# Altium schematic symbol library RES.SchLib: 320 symbols (part 2 of 2)
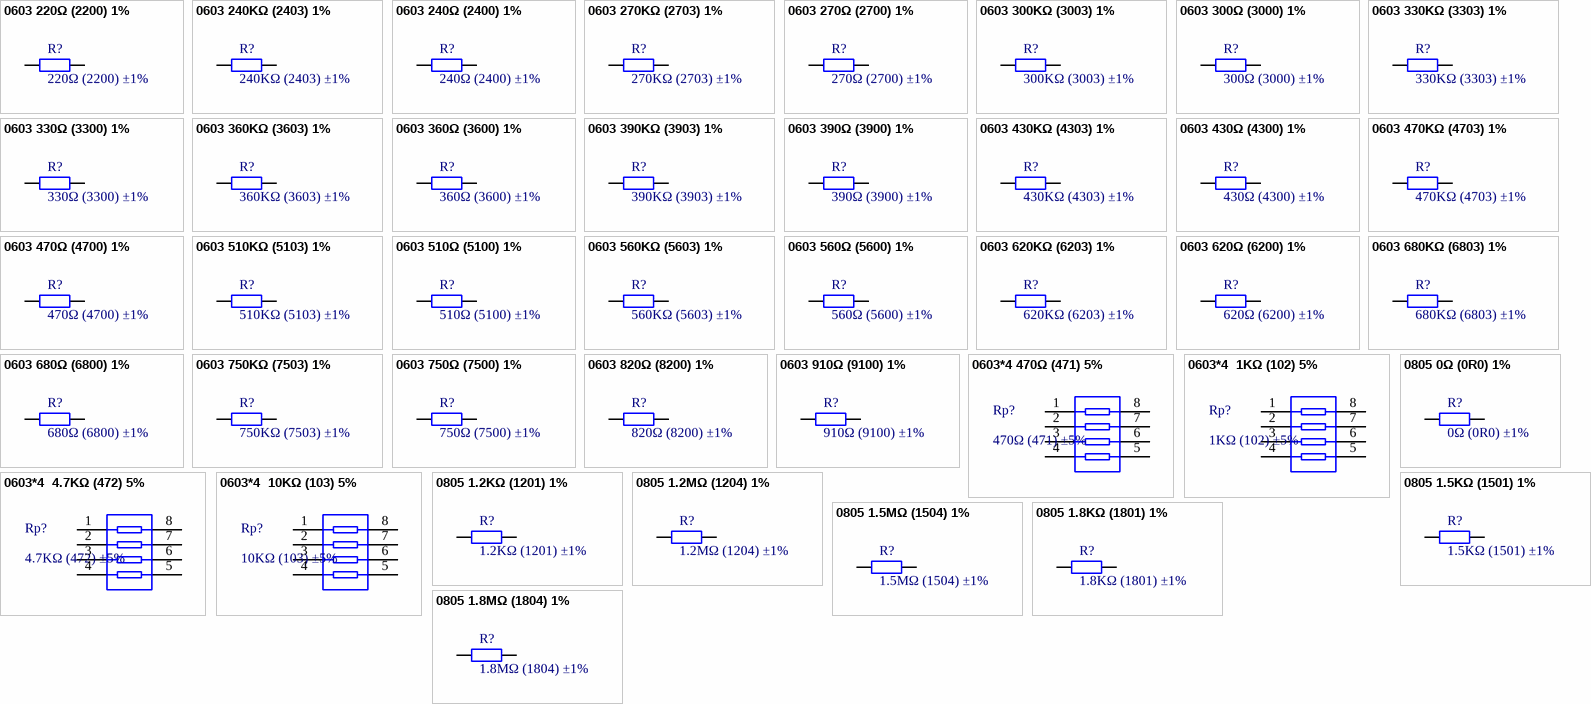
[diagram p8: symbols 0603 220Ω (2200) 1% to 0805 1.8MΩ (1804) 1%]

## 0603*4  10KΩ (103) 5%
designator Rp?, comment 10KΩ (103) ±5%
贴片排阻; ComponentLink1Description: 供应商链接; ComponentLink1URL: http://www.szlcsc.com/product/details_30472.html; Package: 0603*4; Supplier: LC; SuppliersPartNumber: C29718
footprint 0603_Rx4
pins: 1, 2, 3, 4, 5, 6, 7, 8

## 0805 0Ω (0R0) 1%
designator R?, comment 0Ω (0R0) ±1%
贴片电阻; ComponentLink1Description: 供应商链接; ComponentLink1URL: http://www.szlcsc.com/product/details_18165.html; Package: 0805; Supplier: LC; SuppliersPartNumber: C17477
footprint 0805_R
pins: 1, 2

## 0805 1.2KΩ (1201) 1%
designator R?, comment 1.2KΩ (1201) ±1%
贴片电阻; ComponentLink1Description: 供应商链接; ComponentLink1URL: http://www.szlcsc.com/product/details_18067.html; Package: 0805; Supplier: LC; SuppliersPartNumber: C17379
footprint 0805_R
pins: 1, 2

## 0805 1.2MΩ (1204) 1%
designator R?, comment 1.2MΩ (1204) ±1%
贴片电阻; ComponentLink1Description: 供应商链接; ComponentLink1URL: http://www.szlcsc.com/product/details_18068.html; Package: 0805; Supplier: LC; SuppliersPartNumber: C17380
footprint 0805_R
pins: 1, 2

## 0805 1.5KΩ (1501) 1%
designator R?, comment 1.5KΩ (1501) ±1%
贴片电阻; ComponentLink1Description: 供应商链接; ComponentLink1URL: http://www.szlcsc.com/product/details_4717.html; Package: 0805; Supplier: LC; SuppliersPartNumber: C4310
footprint 0805_R
pins: 1, 2

## 0805 1.5MΩ (1504) 1%
designator R?, comment 1.5MΩ (1504) ±1%
贴片电阻; ComponentLink1Description: 供应商链接; ComponentLink1URL: http://www.szlcsc.com/product/details_26853.html; Package: 0805; Supplier: LC; SuppliersPartNumber: C26110
footprint 0805_R
pins: 1, 2

## 0805 1.8KΩ (1801) 1%
designator R?, comment 1.8KΩ (1801) ±1%
贴片电阻; ComponentLink1Description: 供应商链接; ComponentLink1URL: http://www.szlcsc.com/product/details_18086.html; Package: 0805; Supplier: LC; SuppliersPartNumber: C17398
footprint 0805_R
pins: 1, 2

## 0805 1.8MΩ (1804) 1%
designator R?, comment 1.8MΩ (1804) ±1%
贴片电阻; ComponentLink1Description: 供应商链接; ComponentLink1URL: http://www.szlcsc.com/product/details_18087.html; Package: 0805; Supplier: LC; SuppliersPartNumber: C17399
footprint 0805_R
pins: 1, 2

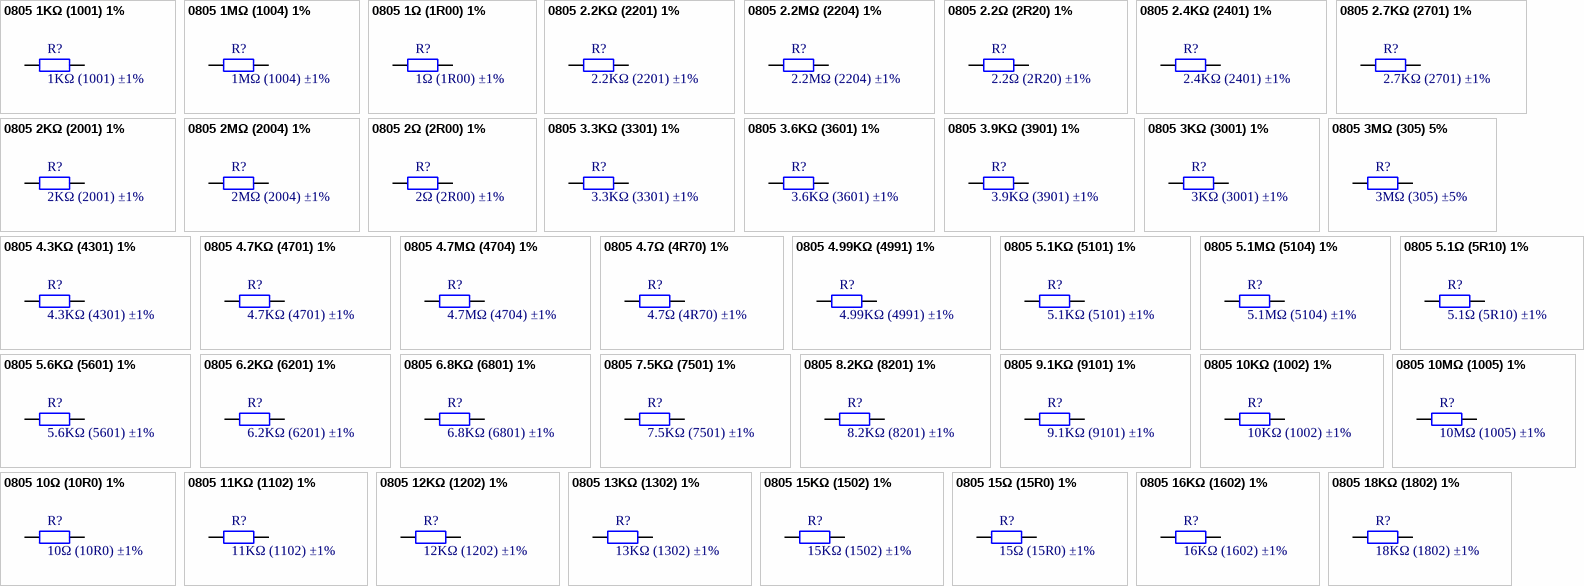
[diagram p5: symbols 0805 1KΩ (1001) 1% to 0805 18KΩ (1802) 1%]

## 0805 1KΩ (1001) 1%
designator R?, comment 1KΩ (1001) ±1%
贴片电阻; ComponentLink1Description: 供应商链接; ComponentLink1URL: http://www.szlcsc.com/product/details_18201.html; Package: 0805; Supplier: LC; SuppliersPartNumber: C17513
footprint 0805_R
pins: 1, 2

## 0805 1MΩ (1004) 1%
designator R?, comment 1MΩ (1004) ±1%
贴片电阻; ComponentLink1Description: 供应商链接; ComponentLink1URL: http://www.szlcsc.com/product/details_18202.html; Package: 0805; Supplier: LC; SuppliersPartNumber: C17514
footprint 0805_R
pins: 1, 2

## 0805 1Ω (1R00) 1%
designator R?, comment 1Ω (1R00) ±1%
贴片电阻; ComponentLink1Description: 供应商链接; ComponentLink1URL: http://www.szlcsc.com/product/details_26014.html; Package: 0805; Supplier: LC; SuppliersPartNumber: C25271
footprint 0805_R
pins: 1, 2

## 0805 2.2KΩ (2201) 1%
designator R?, comment 2.2KΩ (2201) ±1%
贴片电阻; ComponentLink1Description: 供应商链接; ComponentLink1URL: http://www.szlcsc.com/product/details_18208.html; Package: 0805; Supplier: LC; SuppliersPartNumber: C17520
footprint 0805_R
pins: 1, 2

## 0805 2.2MΩ (2204) 1%
designator R?, comment 2.2MΩ (2204) ±1%
贴片电阻; ComponentLink1Description: 供应商链接; ComponentLink1URL: http://www.szlcsc.com/product/details_26856.html; Package: 0805; Supplier: LC; SuppliersPartNumber: C26113
footprint 0805_R
pins: 1, 2

## 0805 2.2Ω (2R20) 1%
designator R?, comment 2.2Ω (2R20) ±1%
贴片电阻; ComponentLink1Description: 供应商链接; ComponentLink1URL: http://www.szlcsc.com/product/details_18209.html; Package: 0805; Supplier: LC; SuppliersPartNumber: C17521
footprint 0805_R
pins: 1, 2

## 0805 2.4KΩ (2401) 1%
designator R?, comment 2.4KΩ (2401) ±1%
贴片电阻; ComponentLink1Description: 供应商链接; ComponentLink1URL: http://www.szlcsc.com/product/details_18214.html; Package: 0805; Supplier: LC; SuppliersPartNumber: C17526
footprint 0805_R
pins: 1, 2

## 0805 2.7KΩ (2701) 1%
designator R?, comment 2.7KΩ (2701) ±1%
贴片电阻; ComponentLink1Description: 供应商链接; ComponentLink1URL: http://www.szlcsc.com/product/details_18218.html; Package: 0805; Supplier: LC; SuppliersPartNumber: C17530
footprint 0805_R
pins: 1, 2

## 0805 2KΩ (2001) 1%
designator R?, comment 2KΩ (2001) ±1%
贴片电阻; ComponentLink1Description: 供应商链接; ComponentLink1URL: http://www.szlcsc.com/product/details_18292.html; Package: 0805; Supplier: LC; SuppliersPartNumber: C17604
footprint 0805_R
pins: 1, 2

## 0805 2MΩ (2004) 1%
designator R?, comment 2MΩ (2004) ±1%
贴片电阻; ComponentLink1Description: 供应商链接; ComponentLink1URL: http://www.szlcsc.com/product/details_26855.html; Package: 0805; Supplier: LC; SuppliersPartNumber: C26112
footprint 0805_R
pins: 1, 2

## 0805 2Ω (2R00) 1%
designator R?, comment 2Ω (2R00) ±1%
贴片电阻; ComponentLink1Description: 供应商链接; ComponentLink1URL: http://www.szlcsc.com/product/details_18294.html; Package: 0805; Supplier: LC; SuppliersPartNumber: C17606
footprint 0805_R
pins: 1, 2

## 0805 3.3KΩ (3301) 1%
designator R?, comment 3.3KΩ (3301) ±1%
贴片电阻; ComponentLink1Description: 供应商链接; ComponentLink1URL: http://www.szlcsc.com/product/details_26753.html; Package: 0805; Supplier: LC; SuppliersPartNumber: C26010
footprint 0805_R
pins: 1, 2

## 0805 3.6KΩ (3601) 1%
designator R?, comment 3.6KΩ (3601) ±1%
贴片电阻; ComponentLink1Description: 供应商链接; ComponentLink1URL: http://www.szlcsc.com/product/details_19056.html; Package: 0805; Supplier: LC; SuppliersPartNumber: C18359
footprint 0805_R
pins: 1, 2

## 0805 3.9KΩ (3901) 1%
designator R?, comment 3.9KΩ (3901) ±1%
贴片电阻; ComponentLink1Description: 供应商链接; ComponentLink1URL: http://www.szlcsc.com/product/details_18302.html; Package: 0805; Supplier: LC; SuppliersPartNumber: C17614
footprint 0805_R
pins: 1, 2

## 0805 3KΩ (3001) 1%
designator R?, comment 3KΩ (3001) ±1%
贴片电阻; ComponentLink1Description: 供应商链接; ComponentLink1URL: http://www.szlcsc.com/product/details_18349.html; Package: 0805; Supplier: LC; SuppliersPartNumber: C17661
footprint 0805_R
pins: 1, 2

## 0805 3MΩ (305) 5%
designator R?, comment 3MΩ (305) ±5%
贴片电阻; ComponentLink1Description: 供应商链接; ComponentLink1URL: http://www.szlcsc.com/product/details_26860.html; Package: 0805; Supplier: LC; SuppliersPartNumber: C26117
footprint 0805_R
pins: 1, 2

## 0805 4.3KΩ (4301) 1%
designator R?, comment 4.3KΩ (4301) ±1%
贴片电阻; ComponentLink1Description: 供应商链接; ComponentLink1URL: http://www.szlcsc.com/product/details_18355.html; Package: 0805; Supplier: LC; SuppliersPartNumber: C17667
footprint 0805_R
pins: 1, 2

## 0805 4.7KΩ (4701) 1%
designator R?, comment 4.7KΩ (4701) ±1%
贴片电阻; ComponentLink1Description: 供应商链接; ComponentLink1URL: http://www.szlcsc.com/product/details_18361.html; Package: 0805; Supplier: LC; SuppliersPartNumber: C17673
footprint 0805_R
pins: 1, 2

## 0805 4.7MΩ (4704) 1%
designator R?, comment 4.7MΩ (4704) ±1%
贴片电阻; ComponentLink1Description: 供应商链接; ComponentLink1URL: http://www.szlcsc.com/product/details_18362.html; Package: 0805; Supplier: LC; SuppliersPartNumber: C17674
footprint 0805_R
pins: 1, 2

## 0805 4.7Ω (4R70) 1%
designator R?, comment 4.7Ω (4R70) ±1%
贴片电阻; ComponentLink1Description: 供应商链接; ComponentLink1URL: http://www.szlcsc.com/product/details_18363.html; Package: 0805; Supplier: LC; SuppliersPartNumber: C17675
footprint 0805_R
pins: 1, 2

## 0805 4.99KΩ (4991) 1%
designator R?, comment 4.99KΩ (4991) ±1%
贴片电阻; ComponentLink1Description: 供应商链接; ComponentLink1URL: http://www.szlcsc.com/product/details_18365.html; Package: 0805; Supplier: LC; SuppliersPartNumber: C17677
footprint 0805_R
pins: 1, 2

## 0805 5.1KΩ (5101) 1%
designator R?, comment 5.1KΩ (5101) ±1%
贴片电阻; ComponentLink1Description: 供应商链接; ComponentLink1URL: http://www.szlcsc.com/product/details_28584.html; Package: 0805; Supplier: LC; SuppliersPartNumber: C27834
footprint 0805_R
pins: 1, 2

## 0805 5.1MΩ (5104) 1%
designator R?, comment 5.1MΩ (5104) ±1%
贴片电阻; ComponentLink1Description: 供应商链接; ComponentLink1URL: http://www.szlcsc.com/product/details_26857.html; Package: 0805; Supplier: LC; SuppliersPartNumber: C26114
footprint 0805_R
pins: 1, 2

## 0805 5.1Ω (5R10) 1%
designator R?, comment 5.1Ω (5R10) ±1%
贴片电阻; ComponentLink1Description: 供应商链接; ComponentLink1URL: http://www.szlcsc.com/product/details_18412.html; Package: 0805; Supplier: LC; SuppliersPartNumber: C17724
footprint 0805_R
pins: 1, 2

## 0805 5.6KΩ (5601) 1%
designator R?, comment 5.6KΩ (5601) ±1%
贴片电阻; ComponentLink1Description: 供应商链接; ComponentLink1URL: http://www.szlcsc.com/product/details_4789.html; Package: 0805; Supplier: LC; SuppliersPartNumber: C4382
footprint 0805_R
pins: 1, 2

## 0805 6.2KΩ (6201) 1%
designator R?, comment 6.2KΩ (6201) ±1%
贴片电阻; ComponentLink1Description: 供应商链接; ComponentLink1URL: http://www.szlcsc.com/product/details_18455.html; Package: 0805; Supplier: LC; SuppliersPartNumber: C17767
footprint 0805_R
pins: 1, 2

## 0805 6.8KΩ (6801) 1%
designator R?, comment 6.8KΩ (6801) ±1%
贴片电阻; ComponentLink1Description: 供应商链接; ComponentLink1URL: http://www.szlcsc.com/product/details_18460.html; Package: 0805; Supplier: LC; SuppliersPartNumber: C17772
footprint 0805_R
pins: 1, 2

## 0805 7.5KΩ (7501) 1%
designator R?, comment 7.5KΩ (7501) ±1%
贴片电阻; ComponentLink1Description: 供应商链接; ComponentLink1URL: http://www.szlcsc.com/product/details_18495.html; Package: 0805; Supplier: LC; SuppliersPartNumber: C17807
footprint 0805_R
pins: 1, 2

## 0805 8.2KΩ (8201) 1%
designator R?, comment 8.2KΩ (8201) ±1%
贴片电阻; ComponentLink1Description: 供应商链接; ComponentLink1URL: http://www.szlcsc.com/product/details_18516.html; Package: 0805; Supplier: LC; SuppliersPartNumber: C17828
footprint 0805_R
pins: 1, 2

## 0805 9.1KΩ (9101) 1%
designator R?, comment 9.1KΩ (9101) ±1%
贴片电阻; ComponentLink1Description: 供应商链接; ComponentLink1URL: http://www.szlcsc.com/product/details_18543.html; Package: 0805; Supplier: LC; SuppliersPartNumber: C17855
footprint 0805_R
pins: 1, 2

## 0805 10KΩ (1002) 1%
designator R?, comment 10KΩ (1002) ±1%
贴片电阻; ComponentLink1Description: 供应商链接; ComponentLink1URL: http://www.szlcsc.com/product/details_18102.html; Package: 0805; Supplier: LC; SuppliersPartNumber: C17414
footprint 0805_R
pins: 1, 2

## 0805 10MΩ (1005) 1%
designator R?, comment 10MΩ (1005) ±1%
贴片电阻; ComponentLink1Description: 供应商链接; ComponentLink1URL: http://www.szlcsc.com/product/details_26851.html; Package: 0805; Supplier: LC; SuppliersPartNumber: C26108
footprint 0805_R
pins: 1, 2

## 0805 10Ω (10R0) 1%
designator R?, comment 10Ω (10R0) ±1%
贴片电阻; ComponentLink1Description: 供应商链接; ComponentLink1URL: http://www.szlcsc.com/product/details_18103.html; Package: 0805; Supplier: LC; SuppliersPartNumber: C17415
footprint 0805_R
pins: 1, 2

## 0805 11KΩ (1102) 1%
designator R?, comment 11KΩ (1102) ±1%
贴片电阻; ComponentLink1Description: 供应商链接; ComponentLink1URL: http://www.szlcsc.com/product/details_18117.html; Package: 0805; Supplier: LC; SuppliersPartNumber: C17429
footprint 0805_R
pins: 1, 2

## 0805 12KΩ (1202) 1%
designator R?, comment 12KΩ (1202) ±1%
贴片电阻; ComponentLink1Description: 供应商链接; ComponentLink1URL: http://www.szlcsc.com/product/details_18132.html; Package: 0805; Supplier: LC; SuppliersPartNumber: C17444
footprint 0805_R
pins: 1, 2

## 0805 13KΩ (1302) 1%
designator R?, comment 13KΩ (1302) ±1%
贴片电阻; ComponentLink1Description: 供应商链接; ComponentLink1URL: http://www.szlcsc.com/product/details_18143.html; Package: 0805; Supplier: LC; SuppliersPartNumber: C17455
footprint 0805_R
pins: 1, 2

## 0805 15KΩ (1502) 1%
designator R?, comment 15KΩ (1502) ±1%
贴片电阻; ComponentLink1Description: 供应商链接; ComponentLink1URL: http://www.szlcsc.com/product/details_18163.html; Package: 0805; Supplier: LC; SuppliersPartNumber: C17475
footprint 0805_R
pins: 1, 2

## 0805 15Ω (15R0) 1%
designator R?, comment 15Ω (15R0) ±1%
贴片电阻; ComponentLink1Description: 供应商链接; ComponentLink1URL: http://www.szlcsc.com/product/details_18168.html; Package: 0805; Supplier: LC; SuppliersPartNumber: C17480
footprint 0805_R
pins: 1, 2

## 0805 16KΩ (1602) 1%
designator R?, comment 16KΩ (1602) ±1%
贴片电阻; ComponentLink1Description: 供应商链接; ComponentLink1URL: http://www.szlcsc.com/product/details_18178.html; Package: 0805; Supplier: LC; SuppliersPartNumber: C17490
footprint 0805_R
pins: 1, 2

## 0805 18KΩ (1802) 1%
designator R?, comment 18KΩ (1802) ±1%
贴片电阻; ComponentLink1Description: 供应商链接; ComponentLink1URL: http://www.szlcsc.com/product/details_18194.html; Package: 0805; Supplier: LC; SuppliersPartNumber: C17506
footprint 0805_R
pins: 1, 2

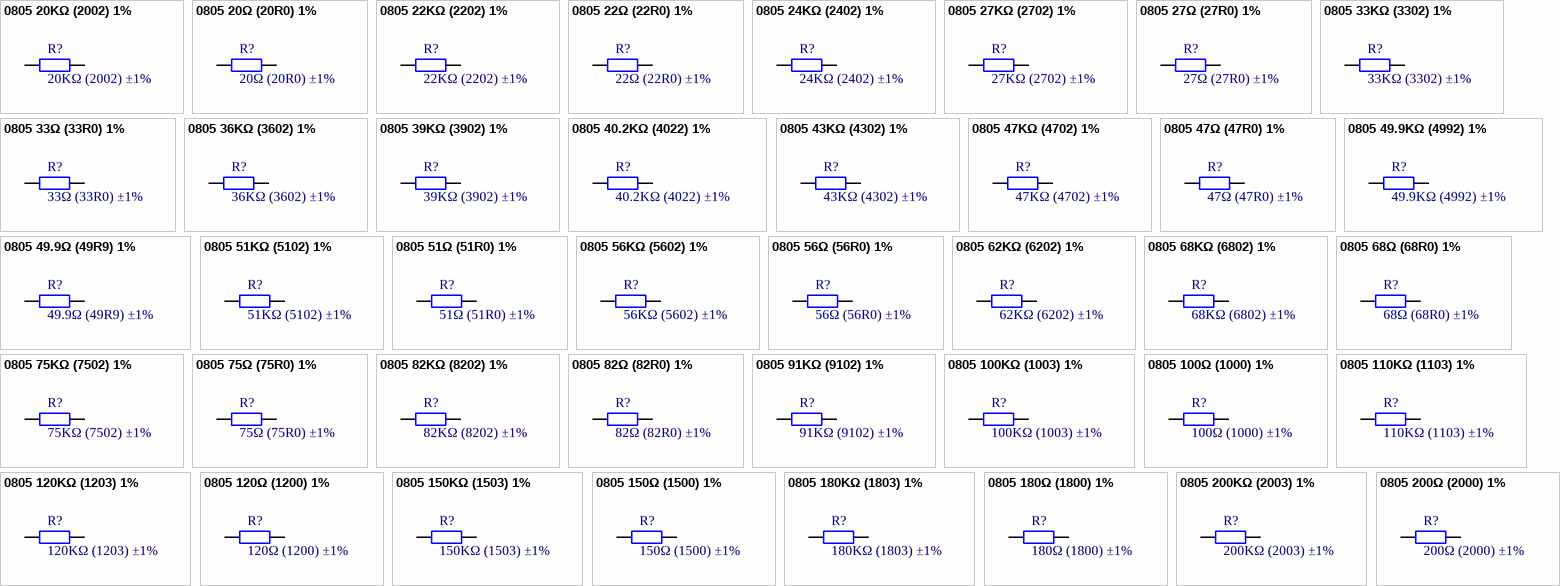
[diagram p6: symbols 0805 20KΩ (2002) 1% to 0805 200Ω (2000) 1%]

## 0805 20KΩ (2002) 1%
designator R?, comment 20KΩ (2002) ±1%
贴片电阻; ComponentLink1Description: 供应商链接; ComponentLink1URL: http://www.szlcsc.com/product/details_4735.html; Package: 0805; Supplier: LC; SuppliersPartNumber: C4328
footprint 0805_R
pins: 1, 2

## 0805 20Ω (20R0) 1%
designator R?, comment 20Ω (20R0) ±1%
贴片电阻; ComponentLink1Description: 供应商链接; ComponentLink1URL: http://www.szlcsc.com/product/details_18232.html; Package: 0805; Supplier: LC; SuppliersPartNumber: C17544
footprint 0805_R
pins: 1, 2

## 0805 22KΩ (2202) 1%
designator R?, comment 22KΩ (2202) ±1%
贴片电阻; ComponentLink1Description: 供应商链接; ComponentLink1URL: http://www.szlcsc.com/product/details_18248.html; Package: 0805; Supplier: LC; SuppliersPartNumber: C17560
footprint 0805_R
pins: 1, 2

## 0805 22Ω (22R0) 1%
designator R?, comment 22Ω (22R0) ±1%
贴片电阻; ComponentLink1Description: 供应商链接; ComponentLink1URL: http://www.szlcsc.com/product/details_18249.html; Package: 0805; Supplier: LC; SuppliersPartNumber: C17561
footprint 0805_R
pins: 1, 2

## 0805 24KΩ (2402) 1%
designator R?, comment 24KΩ (2402) ±1%
贴片电阻; ComponentLink1Description: 供应商链接; ComponentLink1URL: http://www.szlcsc.com/product/details_18263.html; Package: 0805; Supplier: LC; SuppliersPartNumber: C17575
footprint 0805_R
pins: 1, 2

## 0805 27KΩ (2702) 1%
designator R?, comment 27KΩ (2702) ±1%
贴片电阻; ComponentLink1Description: 供应商链接; ComponentLink1URL: http://www.szlcsc.com/product/details_18281.html; Package: 0805; Supplier: LC; SuppliersPartNumber: C17593
footprint 0805_R
pins: 1, 2

## 0805 27Ω (27R0) 1%
designator R?, comment 27Ω (27R0) ±1%
贴片电阻; ComponentLink1Description: 供应商链接; ComponentLink1URL: http://www.szlcsc.com/product/details_18282.html; Package: 0805; Supplier: LC; SuppliersPartNumber: C17594
footprint 0805_R
pins: 1, 2

## 0805 33KΩ (3302) 1%
designator R?, comment 33KΩ (3302) ±1%
贴片电阻; ComponentLink1Description: 供应商链接; ComponentLink1URL: http://www.szlcsc.com/product/details_18321.html; Package: 0805; Supplier: LC; SuppliersPartNumber: C17633
footprint 0805_R
pins: 1, 2

## 0805 33Ω (33R0) 1%
designator R?, comment 33Ω (33R0) ±1%
贴片电阻; ComponentLink1Description: 供应商链接; ComponentLink1URL: http://www.szlcsc.com/product/details_18322.html; Package: 0805; Supplier: LC; SuppliersPartNumber: C17634
footprint 0805_R
pins: 1, 2

## 0805 36KΩ (3602) 1%
designator R?, comment 36KΩ (3602) ±1%
贴片电阻; ComponentLink1Description: 供应商链接; ComponentLink1URL: http://www.szlcsc.com/product/details_4767.html; Package: 0805; Supplier: LC; SuppliersPartNumber: C4360
footprint 0805_R
pins: 1, 2

## 0805 39KΩ (3902) 1%
designator R?, comment 39KΩ (3902) ±1%
贴片电阻; ComponentLink1Description: 供应商链接; ComponentLink1URL: http://www.szlcsc.com/product/details_26569.html; Package: 0805; Supplier: LC; SuppliersPartNumber: C25826
footprint 0805_R
pins: 1, 2

## 0805 40.2KΩ (4022) 1%
designator R?, comment 40.2KΩ (4022) ±1%
贴片电阻; ComponentLink1Description: 供应商链接; ComponentLink1URL: http://www.szlcsc.com/product/details_18366.html; Package: 0805; Supplier: LC; SuppliersPartNumber: C17678
footprint 0805_R
pins: 1, 2

## 0805 43KΩ (4302) 1%
designator R?, comment 43KΩ (4302) ±1%
贴片电阻; ComponentLink1Description: 供应商链接; ComponentLink1URL: http://www.szlcsc.com/product/details_18383.html; Package: 0805; Supplier: LC; SuppliersPartNumber: C17695
footprint 0805_R
pins: 1, 2

## 0805 47KΩ (4702) 1%
designator R?, comment 47KΩ (4702) ±1%
贴片电阻; ComponentLink1Description: 供应商链接; ComponentLink1URL: http://www.szlcsc.com/product/details_18401.html; Package: 0805; Supplier: LC; SuppliersPartNumber: C17713
footprint 0805_R
pins: 1, 2

## 0805 47Ω (47R0) 1%
designator R?, comment 47Ω (47R0) ±1%
贴片电阻; ComponentLink1Description: 供应商链接; ComponentLink1URL: http://www.szlcsc.com/product/details_18402.html; Package: 0805; Supplier: LC; SuppliersPartNumber: C17714
footprint 0805_R
pins: 1, 2

## 0805 49.9KΩ (4992) 1%
designator R?, comment 49.9KΩ (4992) ±1%
贴片电阻; ComponentLink1Description: 供应商链接; ComponentLink1URL: http://www.szlcsc.com/product/details_18407.html; Package: 0805; Supplier: LC; SuppliersPartNumber: C17719
footprint 0805_R
pins: 1, 2

## 0805 49.9Ω (49R9) 1%
designator R?, comment 49.9Ω (49R9) ±1%
贴片电阻; ComponentLink1Description: 供应商链接; ComponentLink1URL: http://www.szlcsc.com/product/details_18408.html; Package: 0805; Supplier: LC; SuppliersPartNumber: C17720
footprint 0805_R
pins: 1, 2

## 0805 51KΩ (5102) 1%
designator R?, comment 51KΩ (5102) ±1%
贴片电阻; ComponentLink1Description: 供应商链接; ComponentLink1URL: http://www.szlcsc.com/product/details_18425.html; Package: 0805; Supplier: LC; SuppliersPartNumber: C17737
footprint 0805_R
pins: 1, 2

## 0805 51Ω (51R0) 1%
designator R?, comment 51Ω (51R0) ±1%
贴片电阻; ComponentLink1Description: 供应商链接; ComponentLink1URL: http://www.szlcsc.com/product/details_18426.html; Package: 0805; Supplier: LC; SuppliersPartNumber: C17738
footprint 0805_R
pins: 1, 2

## 0805 56KΩ (5602) 1%
designator R?, comment 56KΩ (5602) ±1%
贴片电阻; ComponentLink1Description: 供应商链接; ComponentLink1URL: http://www.szlcsc.com/product/details_18444.html; Package: 0805; Supplier: LC; SuppliersPartNumber: C17756
footprint 0805_R
pins: 1, 2

## 0805 56Ω (56R0) 1%
designator R?, comment 56Ω (56R0) ±1%
贴片电阻; ComponentLink1Description: 供应商链接; ComponentLink1URL: http://www.szlcsc.com/product/details_18445.html; Package: 0805; Supplier: LC; SuppliersPartNumber: C17757
footprint 0805_R
pins: 1, 2

## 0805 62KΩ (6202) 1%
designator R?, comment 62KΩ (6202) ±1%
贴片电阻; ComponentLink1Description: 供应商链接; ComponentLink1URL: http://www.szlcsc.com/product/details_18471.html; Package: 0805; Supplier: LC; SuppliersPartNumber: C17783
footprint 0805_R
pins: 1, 2

## 0805 68KΩ (6802) 1%
designator R?, comment 68KΩ (6802) ±1%
贴片电阻; ComponentLink1Description: 供应商链接; ComponentLink1URL: http://www.szlcsc.com/product/details_18489.html; Package: 0805; Supplier: LC; SuppliersPartNumber: C17801
footprint 0805_R
pins: 1, 2

## 0805 68Ω (68R0) 1%
designator R?, comment 68Ω (68R0) ±1%
贴片电阻; ComponentLink1Description: 供应商链接; ComponentLink1URL: http://www.szlcsc.com/product/details_18490.html; Package: 0805; Supplier: LC; SuppliersPartNumber: C17802
footprint 0805_R
pins: 1, 2

## 0805 75KΩ (7502) 1%
designator R?, comment 75KΩ (7502) ±1%
贴片电阻; ComponentLink1Description: 供应商链接; ComponentLink1URL: http://www.szlcsc.com/product/details_18507.html; Package: 0805; Supplier: LC; SuppliersPartNumber: C17819
footprint 0805_R
pins: 1, 2

## 0805 75Ω (75R0) 1%
designator R?, comment 75Ω (75R0) ±1%
贴片电阻; ComponentLink1Description: 供应商链接; ComponentLink1URL: http://www.szlcsc.com/product/details_21350.html; Package: 0805; Supplier: LC; SuppliersPartNumber: C20638
footprint 0805_R
pins: 1, 2

## 0805 82KΩ (8202) 1%
designator R?, comment 82KΩ (8202) ±1%
贴片电阻; ComponentLink1Description: 供应商链接; ComponentLink1URL: http://www.szlcsc.com/product/details_18528.html; Package: 0805; Supplier: LC; SuppliersPartNumber: C17840
footprint 0805_R
pins: 1, 2

## 0805 82Ω (82R0) 1%
designator R?, comment 82Ω (82R0) ±1%
贴片电阻; ComponentLink1Description: 供应商链接; ComponentLink1URL: http://www.szlcsc.com/product/details_18529.html; Package: 0805; Supplier: LC; SuppliersPartNumber: C17841
footprint 0805_R
pins: 1, 2

## 0805 91KΩ (9102) 1%
designator R?, comment 91KΩ (9102) ±1%
贴片电阻; ComponentLink1Description: 供应商链接; ComponentLink1URL: http://www.szlcsc.com/product/details_18554.html; Package: 0805; Supplier: LC; SuppliersPartNumber: C17866
footprint 0805_R
pins: 1, 2

## 0805 100KΩ (1003) 1%
designator R?, comment 100KΩ (1003) ±1%
贴片电阻; ComponentLink1Description: 供应商链接; ComponentLink1URL: http://www.szlcsc.com/product/details_18095.html; Package: 0805; Supplier: LC; SuppliersPartNumber: C17407
footprint 0805_R
pins: 1, 2

## 0805 100Ω (1000) 1%
designator R?, comment 100Ω (1000) ±1%
贴片电阻; ComponentLink1Description: 供应商链接; ComponentLink1URL: http://www.szlcsc.com/product/details_18096.html; Package: 0805; Supplier: LC; SuppliersPartNumber: C17408
footprint 0805_R
pins: 1, 2

## 0805 110KΩ (1103) 1%
designator R?, comment 110KΩ (1103) ±1%
贴片电阻; ComponentLink1Description: 供应商链接; ComponentLink1URL: http://www.szlcsc.com/product/details_18110.html; Package: 0805; Supplier: LC; SuppliersPartNumber: C17422
footprint 0805_R
pins: 1, 2

## 0805 120KΩ (1203) 1%
designator R?, comment 120KΩ (1203) ±1%
贴片电阻; ComponentLink1Description: 供应商链接; ComponentLink1URL: http://www.szlcsc.com/product/details_18124.html; Package: 0805; Supplier: LC; SuppliersPartNumber: C17436
footprint 0805_R
pins: 1, 2

## 0805 120Ω (1200) 1%
designator R?, comment 120Ω (1200) ±1%
贴片电阻; ComponentLink1Description: 供应商链接; ComponentLink1URL: http://www.szlcsc.com/product/details_18125.html; Package: 0805; Supplier: LC; SuppliersPartNumber: C17437
footprint 0805_R
pins: 1, 2

## 0805 150KΩ (1503) 1%
designator R?, comment 150KΩ (1503) ±1%
贴片电阻; ComponentLink1Description: 供应商链接; ComponentLink1URL: http://www.szlcsc.com/product/details_18158.html; Package: 0805; Supplier: LC; SuppliersPartNumber: C17470
footprint 0805_R
pins: 1, 2

## 0805 150Ω (1500) 1%
designator R?, comment 150Ω (1500) ±1%
贴片电阻; ComponentLink1Description: 供应商链接; ComponentLink1URL: http://www.szlcsc.com/product/details_18159.html; Package: 0805; Supplier: LC; SuppliersPartNumber: C17471
footprint 0805_R
pins: 1, 2

## 0805 180KΩ (1803) 1%
designator R?, comment 180KΩ (1803) ±1%
贴片电阻; ComponentLink1Description: 供应商链接; ComponentLink1URL: http://www.szlcsc.com/product/details_18189.html; Package: 0805; Supplier: LC; SuppliersPartNumber: C17501
footprint 0805_R
pins: 1, 2

## 0805 180Ω (1800) 1%
designator R?, comment 180Ω (1800) ±1%
贴片电阻; ComponentLink1Description: 供应商链接; ComponentLink1URL: http://www.szlcsc.com/product/details_26013.html; Package: 0805; Supplier: LC; SuppliersPartNumber: C25270
footprint 0805_R
pins: 1, 2

## 0805 200KΩ (2003) 1%
designator R?, comment 200KΩ (2003) ±1%
贴片电阻; ComponentLink1Description: 供应商链接; ComponentLink1URL: http://www.szlcsc.com/product/details_18227.html; Package: 0805; Supplier: LC; SuppliersPartNumber: C17539
footprint 0805_R
pins: 1, 2

## 0805 200Ω (2000) 1%
designator R?, comment 200Ω (2000) ±1%
贴片电阻; ComponentLink1Description: 供应商链接; ComponentLink1URL: http://www.szlcsc.com/product/details_18228.html; Package: 0805; Supplier: LC; SuppliersPartNumber: C17540
footprint 0805_R
pins: 1, 2

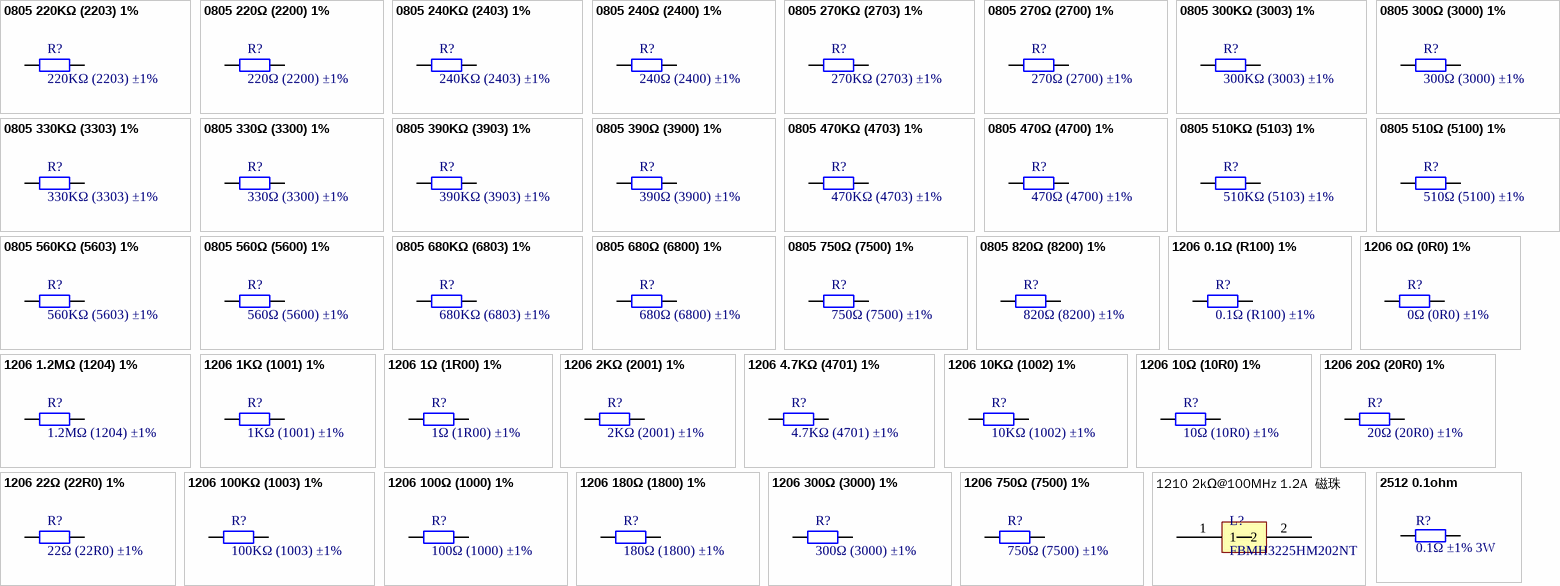
[diagram p7: symbols 0805 220KΩ (2203) 1% to 2512 0.1ohm]

## 0805 220KΩ (2203) 1%
designator R?, comment 220KΩ (2203) ±1%
贴片电阻; ComponentLink1Description: 供应商链接; ComponentLink1URL: http://www.szlcsc.com/product/details_18244.html; Package: 0805; Supplier: LC; SuppliersPartNumber: C17556
footprint 0805_R
pins: 1, 2

## 0805 220Ω (2200) 1%
designator R?, comment 220Ω (2200) ±1%
贴片电阻; ComponentLink1Description: 供应商链接; ComponentLink1URL: http://www.szlcsc.com/product/details_18245.html; Package: 0805; Supplier: LC; SuppliersPartNumber: C17557
footprint 0805_R
pins: 1, 2

## 0805 240KΩ (2403) 1%
designator R?, comment 240KΩ (2403) ±1%
贴片电阻; ComponentLink1Description: 供应商链接; ComponentLink1URL: http://www.szlcsc.com/product/details_26567.html; Package: 0805; Supplier: LC; SuppliersPartNumber: C25824
footprint 0805_R
pins: 1, 2

## 0805 240Ω (2400) 1%
designator R?, comment 240Ω (2400) ±1%
贴片电阻; ComponentLink1Description: 供应商链接; ComponentLink1URL: http://www.szlcsc.com/product/details_18260.html; Package: 0805; Supplier: LC; SuppliersPartNumber: C17572
footprint 0805_R
pins: 1, 2

## 0805 270KΩ (2703) 1%
designator R?, comment 270KΩ (2703) ±1%
贴片电阻; ComponentLink1Description: 供应商链接; ComponentLink1URL: http://www.szlcsc.com/product/details_18277.html; Package: 0805; Supplier: LC; SuppliersPartNumber: C17589
footprint 0805_R
pins: 1, 2

## 0805 270Ω (2700) 1%
designator R?, comment 270Ω (2700) ±1%
贴片电阻; ComponentLink1Description: 供应商链接; ComponentLink1URL: http://www.szlcsc.com/product/details_18278.html; Package: 0805; Supplier: LC; SuppliersPartNumber: C17590
footprint 0805_R
pins: 1, 2

## 0805 300KΩ (3003) 1%
designator R?, comment 300KΩ (3003) ±1%
贴片电阻; ComponentLink1Description: 供应商链接; ComponentLink1URL: http://www.szlcsc.com/product/details_18304.html; Package: 0805; Supplier: LC; SuppliersPartNumber: C17616
footprint 0805_R
pins: 1, 2

## 0805 300Ω (3000) 1%
designator R?, comment 300Ω (3000) ±1%
贴片电阻; ComponentLink1Description: 供应商链接; ComponentLink1URL: http://www.szlcsc.com/product/details_18305.html; Package: 0805; Supplier: LC; SuppliersPartNumber: C17617
footprint 0805_R
pins: 1, 2

## 0805 330KΩ (3303) 1%
designator R?, comment 330KΩ (3303) ±1%
贴片电阻; ComponentLink1Description: 供应商链接; ComponentLink1URL: http://www.szlcsc.com/product/details_18317.html; Package: 0805; Supplier: LC; SuppliersPartNumber: C17629
footprint 0805_R
pins: 1, 2

## 0805 330Ω (3300) 1%
designator R?, comment 330Ω (3300) ±1%
贴片电阻; ComponentLink1Description: 供应商链接; ComponentLink1URL: http://www.szlcsc.com/product/details_18318.html; Package: 0805; Supplier: LC; SuppliersPartNumber: C17630
footprint 0805_R
pins: 1, 2

## 0805 390KΩ (3903) 1%
designator R?, comment 390KΩ (3903) ±1%
贴片电阻; ComponentLink1Description: 供应商链接; ComponentLink1URL: http://www.szlcsc.com/product/details_18344.html; Package: 0805; Supplier: LC; SuppliersPartNumber: C17656
footprint 0805_R
pins: 1, 2

## 0805 390Ω (3900) 1%
designator R?, comment 390Ω (3900) ±1%
贴片电阻; ComponentLink1Description: 供应商链接; ComponentLink1URL: http://www.szlcsc.com/product/details_18343.html; Package: 0805; Supplier: LC; SuppliersPartNumber: C17655
footprint 0805_R
pins: 1, 2

## 0805 470KΩ (4703) 1%
designator R?, comment 470KΩ (4703) ±1%
贴片电阻; ComponentLink1Description: 供应商链接; ComponentLink1URL: http://www.szlcsc.com/product/details_18397.html; Package: 0805; Supplier: LC; SuppliersPartNumber: C17709
footprint 0805_R
pins: 1, 2

## 0805 470Ω (4700) 1%
designator R?, comment 470Ω (4700) ±1%
贴片电阻; ComponentLink1Description: 供应商链接; ComponentLink1URL: http://www.szlcsc.com/product/details_18398.html; Package: 0805; Supplier: LC; SuppliersPartNumber: C17710
footprint 0805_R
pins: 1, 2

## 0805 510KΩ (5103) 1%
designator R?, comment 510KΩ (5103) ±1%
贴片电阻; ComponentLink1Description: 供应商链接; ComponentLink1URL: http://www.szlcsc.com/product/details_18421.html; Package: 0805; Supplier: LC; SuppliersPartNumber: C17733
footprint 0805_R
pins: 1, 2

## 0805 510Ω (5100) 1%
designator R?, comment 510Ω (5100) ±1%
贴片电阻; ComponentLink1Description: 供应商链接; ComponentLink1URL: http://www.szlcsc.com/product/details_18422.html; Package: 0805; Supplier: LC; SuppliersPartNumber: C17734
footprint 0805_R
pins: 1, 2

## 0805 560KΩ (5603) 1%
designator R?, comment 560KΩ (5603) ±1%
贴片电阻; ComponentLink1Description: 供应商链接; ComponentLink1URL: http://www.szlcsc.com/product/details_16467.html; Package: 0805; Supplier: LC; SuppliersPartNumber: C15785
footprint 0805_R
pins: 1, 2

## 0805 560Ω (5600) 1%
designator R?, comment 560Ω (5600) ±1%
贴片电阻; ComponentLink1Description: 供应商链接; ComponentLink1URL: http://www.szlcsc.com/product/details_29388.html; Package: 0805; Supplier: LC; SuppliersPartNumber: C28636
footprint 0805_R
pins: 1, 2

## 0805 680KΩ (6803) 1%
designator R?, comment 680KΩ (6803) ±1%
贴片电阻; ComponentLink1Description: 供应商链接; ComponentLink1URL: http://www.szlcsc.com/product/details_18485.html; Package: 0805; Supplier: LC; SuppliersPartNumber: C17797
footprint 0805_R
pins: 1, 2

## 0805 680Ω (6800) 1%
designator R?, comment 680Ω (6800) ±1%
贴片电阻; ComponentLink1Description: 供应商链接; ComponentLink1URL: http://www.szlcsc.com/product/details_18486.html; Package: 0805; Supplier: LC; SuppliersPartNumber: C17798
footprint 0805_R
pins: 1, 2

## 0805 750Ω (7500) 1%
designator R?, comment 750Ω (7500) ±1%
贴片电阻; ComponentLink1Description: 供应商链接; ComponentLink1URL: http://www.szlcsc.com/product/details_18506.html; Package: 0805; Supplier: LC; SuppliersPartNumber: C17818
footprint 0805_R
pins: 1, 2

## 0805 820Ω (8200) 1%
designator R?, comment 820Ω (8200) ±1%
贴片电阻; ComponentLink1Description: 供应商链接; ComponentLink1URL: http://www.szlcsc.com/product/details_18525.html; Package: 0805; Supplier: LC; SuppliersPartNumber: C17837
footprint 0805_R
pins: 1, 2

## 1206 0.1Ω (R100) 1%
designator R?, comment 0.1Ω (R100) ±1%
贴片电阻; ComponentLink1Description: 供应商链接; ComponentLink1URL: http://www.szlcsc.com/product/details_26077.html; Package: 1206; Supplier: LC; SuppliersPartNumber: C25334
footprint 1206_R
pins: 1, 2

## 1206 0Ω (0R0) 1%
designator R?, comment 0Ω (0R0) ±1%
贴片电阻; ComponentLink1Description: 供应商链接; ComponentLink1URL: http://www.szlcsc.com/product/details_18576.html; Package: 1206; Supplier: LC; SuppliersPartNumber: C17888
footprint 1206_R
pins: 1, 2

## 1206 1.2MΩ (1204) 1%
designator R?, comment 1.2MΩ (1204) ±1%
贴片电阻; ComponentLink1Description: 供应商链接; ComponentLink1URL: http://www.szlcsc.com/product/details_22832.html; Package: 1206; Supplier: LC; SuppliersPartNumber: C22107
footprint 1206_R
pins: 1, 2

## 1206 1KΩ (1001) 1%
designator R?, comment 1KΩ (1001) ±1%
贴片电阻; ComponentLink1Description: 供应商链接; ComponentLink1URL: http://www.szlcsc.com/product/details_4817.html; Package: 1206; Supplier: LC; SuppliersPartNumber: C4410
footprint 1206_R
pins: 1, 2

## 1206 1Ω (1R00) 1%
designator R?, comment 1Ω (1R00) ±1%
贴片电阻; ComponentLink1Description: 供应商链接; ComponentLink1URL: http://www.szlcsc.com/product/details_18616.html; Package: 1206; Supplier: LC; SuppliersPartNumber: C17928
footprint 1206_R
pins: 1, 2

## 1206 2KΩ (2001) 1%
designator R?, comment 2KΩ (2001) ±1%
贴片电阻; ComponentLink1Description: 供应商链接; ComponentLink1URL: http://www.szlcsc.com/product/details_18632.html; Package: 1206; Supplier: LC; SuppliersPartNumber: C17944
footprint 1206_R
pins: 1, 2

## 1206 4.7KΩ (4701) 1%
designator R?, comment 4.7KΩ (4701) ±1%
贴片电阻; ComponentLink1Description: 供应商链接; ComponentLink1URL: http://www.szlcsc.com/product/details_18624.html; Package: 1206; Supplier: LC; SuppliersPartNumber: C17936
footprint 1206_R
pins: 1, 2

## 1206 10KΩ (1002) 1%
designator R?, comment 10KΩ (1002) ±1%
贴片电阻; ComponentLink1Description: 供应商链接; ComponentLink1URL: http://www.szlcsc.com/product/details_18590.html; Package: 1206; Supplier: LC; SuppliersPartNumber: C17902
footprint 1206_R
pins: 1, 2

## 1206 10Ω (10R0) 1%
designator R?, comment 10Ω (10R0) ±1%
贴片电阻; ComponentLink1Description: 供应商链接; ComponentLink1URL: http://www.szlcsc.com/product/details_18591.html; Package: 1206; Supplier: LC; SuppliersPartNumber: C17903
footprint 1206_R
pins: 1, 2

## 1206 20Ω (20R0) 1%
designator R?, comment 20Ω (20R0) ±1%
贴片电阻; ComponentLink1Description: 供应商链接; ComponentLink1URL: http://www.szlcsc.com/product/details_18643.html; Package: 1206; Supplier: LC; SuppliersPartNumber: C17955
footprint 1206_R
pins: 1, 2

## 1206 22Ω (22R0) 1%
designator R?, comment 22Ω (22R0) ±1%
贴片电阻; ComponentLink1Description: 供应商链接; ComponentLink1URL: http://www.szlcsc.com/product/details_18646.html; Package: 1206; Supplier: LC; SuppliersPartNumber: C17958
footprint 1206_R
pins: 1, 2

## 1206 100KΩ (1003) 1%
designator R?, comment 100KΩ (1003) ±1%
贴片电阻; ComponentLink1Description: 供应商链接; ComponentLink1URL: http://www.szlcsc.com/product/details_18588.html; Package: 1206; Supplier: LC; SuppliersPartNumber: C17900
footprint 1206_R
pins: 1, 2

## 1206 100Ω (1000) 1%
designator R?, comment 100Ω (1000) ±1%
贴片电阻; ComponentLink1Description: 供应商链接; ComponentLink1URL: http://www.szlcsc.com/product/details_18589.html; Package: 1206; Supplier: LC; SuppliersPartNumber: C17901
footprint 1206_R
pins: 1, 2

## 1206 180Ω (1800) 1%
designator R?, comment 180Ω (1800) ±1%
贴片电阻; ComponentLink1Description: 供应商链接; ComponentLink1URL: http://www.szlcsc.com/product/details_18612.html; Package: 1206; Supplier: LC; SuppliersPartNumber: C17924
footprint 1206_R
pins: 1, 2

## 1206 300Ω (3000) 1%
designator R?, comment 300Ω (3000) ±1%
贴片电阻; ComponentLink1Description: 供应商链接; ComponentLink1URL: http://www.szlcsc.com/product/details_18575.html; Package: 1206; Supplier: LC; SuppliersPartNumber: C17887
footprint 1206_R
pins: 1, 2

## 1206 750Ω (7500) 1%
designator R?, comment 750Ω (7500) ±1%
贴片电阻; ComponentLink1Description: 供应商链接; ComponentLink1URL: http://www.szlcsc.com/product/details_18673.html; Package: 1206; Supplier: LC; SuppliersPartNumber: C17985
footprint 1206_R
pins: 1, 2

## 1210 2kΩ@100MHz 1.2A  磁珠
designator L?, comment FBMH3225HM202NT
BOM_Manufacturer: Taiyo Yuden; BOM_Manufacturer Part: FBMH3225HM202NT; Package: 1210
footprint 1210
pins: 1, 2

## 2512 0.1ohm
designator R?, comment 0.1Ω ±1% 3W
贴片电阻; Package: 2512
footprint 2512_C
pins: 1, 2